# EAGLE library part WS2822S_LED (library blinkinlabs)
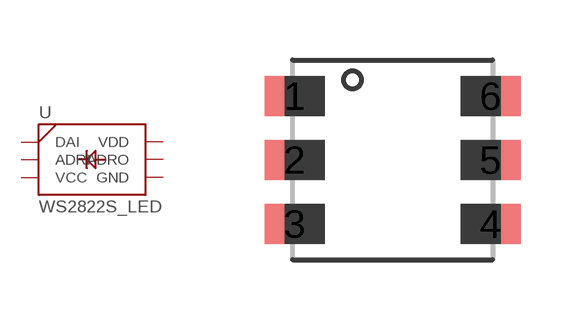
[diagram p8: symbol with the pads of WS2822S_LED; footprint WS2822S_LED]

Designator prefix -

## WS2822S_LED  [WS2822S_LED]
1  DAI  in
2  ADRI  in
3  VCC  pwr
4  GND  pwr
5  ADRO  out
6  VDD  pwr

## Footprint WS2822S_LED (pad centres in mm)
smd 1.5 x 1: 1 -2.45,1.6; 2 -2.45,0; 3 -2.45,-1.6; 4 2.45,-1.6; 5 2.45,0; 6 2.45,1.6